# Altium footprint library xPMU_lib.PcbLib: 5 footprints
Each footprint in its own frame and in the unit in brackets; x right, y up, seen from the top. Pads: shape width x height; smd on the part's side, far side on the other; paste and mask are expansions set on the pad; w line width, h text height; cw(c..) or ccw(c..) is an arc to the next point about the centre after c.
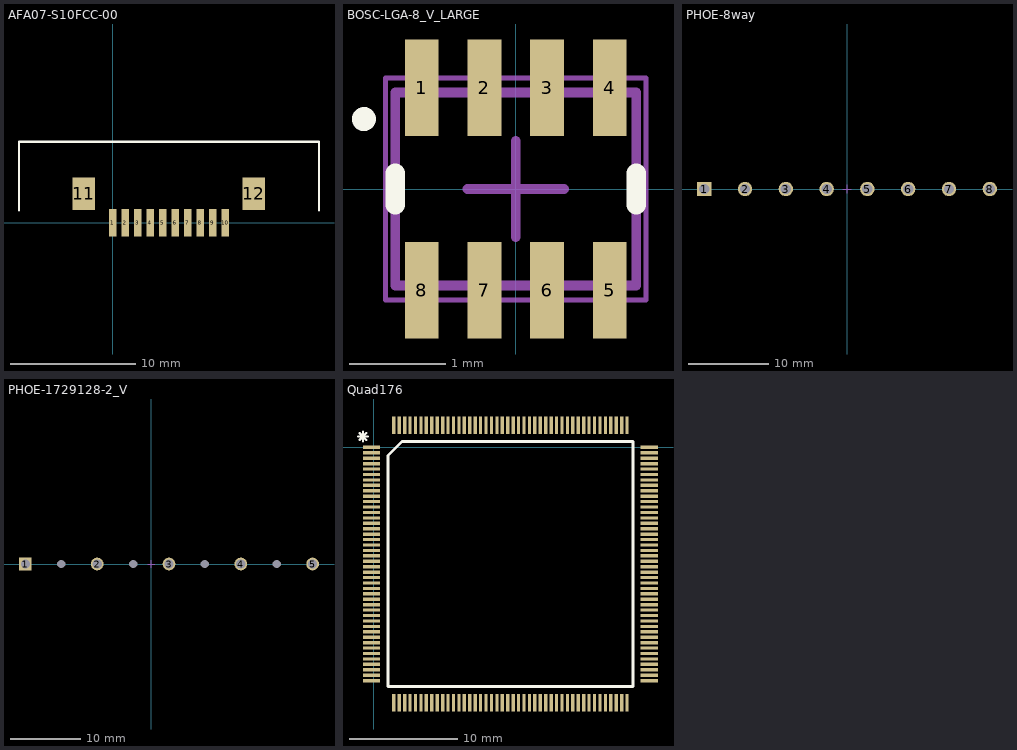
[diagram p0: the footprints below, top view; thin cyan lines are the x and y axes]

## AFA07-S10FCC-00 [mm] "10pin 1.0mm FFC Connector"
pads (12):
  rect 0.6x2.2 smd: 1(0,0) 2(1,0) 3(2,0) 4(3,0) 5(4,0) 6(5,0) 7(6,0) 8(7,0) 9(8,0) 10(9,0)
  rect 1.8x2.6 smd: 11(-2.3,2.3) 12(11.3,2.3)
Top Overlay:
  lines w0.2: -7.5,1 -7.5,6.5 4.5,6.5 16.5,6.5 16.5,1

## BOSC-LGA-8_V_LARGE [mm] "LGA, 8-Leads, Body 2.5x2mm, Pitch 0.65mm"
height 1
pads (8):
  rect 0.35x1 smd: 1(-0.975,1.05) 2(-0.325,1.05) 3(0.325,1.05) 4(0.975,1.05) 5(0.975,-1.05) 6(0.325,-1.05) 7(-0.325,-1.05) 8(-0.975,-1.05)
Top Overlay:
  circle w0.125: c-1.574,0.725 r0.062
  lines w0.2: -1.25,-0.163 -1.25,0.163 ; 1.25,-0.163 1.25,0.163
Mechanical 13:
  lines w0.1: -1.25,-1 -1.25,1 1.25,1 1.25,-1 -1.25,-1
Mechanical 15:
  lines w0.05: -1.35,-1.15 1.35,-1.15 1.35,1.15 -1.35,1.15 -1.35,-1.15
  lines w0.1: -0.5,0 0.5,0 ; 0,-0.5 0,0.5
3D body: height 1, standoff 0, extent -1.25,-1 1.25,1

## PHOE-8way [mm] "Receptacle, 2-Leads, Body 8.1x10.16mm, Pitch 5.08mm"
height 10.013
pads (8):
  rect 1.8x1.8 hole 1.3: 1(-17.78,0)
  round 1.8 hole 1.3: 2(-12.7,0) 3(-7.62,0) 4(-2.54,0) 5(2.54,0) 6(7.62,0) 7(12.7,0) 8(17.78,0)
Mechanical 15:
  lines w0.1: -0.5,0 0.5,0 ; 0,-0.5 0,0.5
3D body "strip_connector_8way.step": height 10.02, standoff -3.48, extent -20.331,-4.05 20.879,4.05

## PHOE-1729128-2_V [mm] "Receptacle, 2-Leads, Body 8.1x10.16mm, Pitch 5.08mm"
height 10.013
pads (9):
  rect 1.8x1.8 hole 1.3: 1(-17.78,0)
  round 1.8 hole 1.3: 2(-7.62,0) 3(2.54,0) 4(12.7,0) 5(22.86,0)
  round 0 hole 1.2 unplated: 12(-12.7,0) 13(-2.54,0) 14(7.62,0) 15(17.78,0)
Mechanical 15:
  lines w0.1: -0.5,0 0.5,0 ; 0,-0.5 0,0.5
3D body "joined_strip_9way.step": height 10.02, standoff -3.48, extent -20.345,-4 25.945,4.1

## Quad176 [mm]
pads (176):
  rect 1.6x0.3 smd: 1(-0.2,0) 2(-0.2,-0.5) 3(-0.2,-1) 4(-0.2,-1.5) 5(-0.2,-2) 6(-0.2,-2.5) 7(-0.2,-3) 8(-0.2,-3.5) 9(-0.2,-4) 10(-0.2,-4.5) 11(-0.2,-5) 12(-0.2,-5.5) 13(-0.2,-6) 14(-0.2,-6.5) 15(-0.2,-7) 16(-0.2,-7.5) 17(-0.2,-8) 18(-0.2,-8.5) 19(-0.2,-9) 20(-0.2,-9.5) 21(-0.2,-10) 22(-0.2,-10.5) 23(-0.2,-11) 24(-0.2,-11.5) 25(-0.2,-12) 26(-0.2,-12.5) 27(-0.2,-13) 28(-0.2,-13.5) 29(-0.2,-14) 30(-0.2,-14.5) 31(-0.2,-15) 32(-0.2,-15.5) 33(-0.2,-16) 34(-0.2,-16.5) 35(-0.2,-17) 36(-0.2,-17.5) 37(-0.2,-18) 38(-0.2,-18.5) 39(-0.2,-19) 40(-0.2,-19.5) 41(-0.2,-20) 42(-0.2,-20.5) 43(-0.2,-21) 44(-0.2,-21.5) 89(25.4,-21.5) 90(25.4,-21) 91(25.4,-20.5) 92(25.4,-20) 93(25.4,-19.5) 94(25.4,-19) 95(25.4,-18.5) 96(25.4,-18) 97(25.4,-17.5) 98(25.4,-17) 99(25.4,-16.5) 100(25.4,-16) 101(25.4,-15.5) 102(25.4,-15) 103(25.4,-14.5) 104(25.4,-14) 105(25.4,-13.5) 106(25.4,-13) 107(25.4,-12.5) 108(25.4,-12) 109(25.4,-11.5) 110(25.4,-11) 111(25.4,-10.5) 112(25.4,-10) 113(25.4,-9.5) 114(25.4,-9) 115(25.4,-8.5) 116(25.4,-8) 117(25.4,-7.5) 118(25.4,-7) 119(25.4,-6.5) 120(25.4,-6) 121(25.4,-5.5) 122(25.4,-5) 123(25.4,-4.5) 124(25.4,-4) 125(25.4,-3.5) 126(25.4,-3) 127(25.4,-2.5) 128(25.4,-2) 129(25.4,-1.5) 130(25.4,-1) 131(25.4,-0.5) 132(25.4,0)
  rect 0.3x1.6 smd: 45(1.85,-23.55) 46(2.35,-23.55) 47(2.85,-23.55) 48(3.35,-23.55) 49(3.85,-23.55) 50(4.35,-23.55) 51(4.85,-23.55) 52(5.35,-23.55) 53(5.85,-23.55) 54(6.35,-23.55) 55(6.85,-23.55) 56(7.35,-23.55) 57(7.85,-23.55) 58(8.35,-23.55) 59(8.85,-23.55) 60(9.35,-23.55) 61(9.85,-23.55) 62(10.35,-23.55) 63(10.85,-23.55) 64(11.35,-23.55) 65(11.85,-23.55) 66(12.35,-23.55) 67(12.85,-23.55) 68(13.35,-23.55) 69(13.85,-23.55) 70(14.35,-23.55) 71(14.85,-23.55) 72(15.35,-23.55) 73(15.85,-23.55) 74(16.35,-23.55) 75(16.85,-23.55) 76(17.35,-23.55) 77(17.85,-23.55) 78(18.35,-23.55) 79(18.85,-23.55) 80(19.35,-23.55) 81(19.85,-23.55) 82(20.35,-23.55) 83(20.85,-23.55) 84(21.35,-23.55) 85(21.85,-23.55) 86(22.35,-23.55) 87(22.85,-23.55) 88(23.35,-23.55) 133(23.35,2.05) 134(22.85,2.05) 135(22.35,2.05) 136(21.85,2.05) 137(21.35,2.05) 138(20.85,2.05) 139(20.35,2.05) 140(19.85,2.05) 141(19.35,2.05) 142(18.85,2.05) 143(18.35,2.05) 144(17.85,2.05) 145(17.35,2.05) 146(16.85,2.05) 147(16.35,2.05) 148(15.85,2.05) 149(15.35,2.05) 150(14.85,2.05) 151(14.35,2.05) 152(13.85,2.05) 153(13.35,2.05) 154(12.85,2.05) 155(12.35,2.05) 156(11.85,2.05) 157(11.35,2.05) 158(10.85,2.05) 159(10.35,2.05) 160(9.85,2.05) 161(9.35,2.05) 162(8.85,2.05) 163(8.35,2.05) 164(7.85,2.05) 165(7.35,2.05) 166(6.85,2.05) 167(6.35,2.05) 168(5.85,2.05) 169(5.35,2.05) 170(4.85,2.05) 171(4.35,2.05) 172(3.85,2.05) 173(3.35,2.05) 174(2.85,2.05) 175(2.35,2.05) 176(1.85,2.05)
Top Overlay:
  lines w0.2: -1.45,1 -0.55,1 ; -1.318,0.682 -0.682,1.318 ; -1.318,1.318 -0.682,0.682 ; -1,0.55 -1,1.45
  lines w0.254: 1.308,-22.042 23.892,-22.042 23.892,0.542 2.616,0.542 1.308,-0.766 1.308,-22.042
3D body "User Library-LQFP176.step": height 1.65, standoff -0.05, extent -0.4,-23.771 25.621,2.25